# Altium schematic symbol library RES 75.0 1_8W - 5%.Schlib: 1 symbol
Pins are listed as number, name and electrical type; pins without a type are passive.

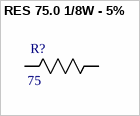
[diagram p0: symbol RES 75.0 1/8W - 5%]

## RES 75.0 1/8W - 5%
designator R?, comment 75
RES SMD 75 OHM 5% 1/8W 0805; Power (Watts): 0.125W; Package: 0805; Value: 75; Tolerance: 5%
footprint 0805
pins: 1 R1, 2 R2